# Altium footprint library V_1.PcbLib: 4 footprints
Each footprint in its own frame and in the unit in brackets; x right, y up, seen from the top. Pads: shape width x height; smd on the part's side, far side on the other; paste and mask are expansions set on the pad; w line width, h text height; cw(c..) or ccw(c..) is an arc to the next point about the centre after c.
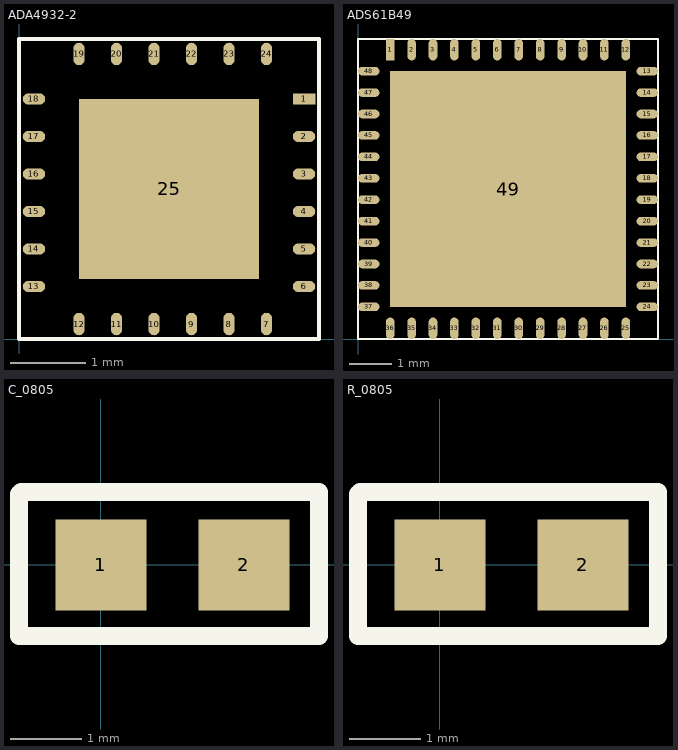
[diagram p0: the footprints below, top view; thin cyan lines are the x and y axes]

## ADA4932-2 [mm]
pads (25):
  rect 0.3x0.15 smd: 1(3.8,3.2)
  oval 0.3x0.15 smd: 2(3.8,2.7) 3(3.8,2.2) 4(3.8,1.7) 5(3.8,1.2) 6(3.8,0.7) 13(0.2,0.7) 14(0.2,1.2) 15(0.2,1.7) 16(0.2,2.2) 17(0.2,2.7) 18(0.2,3.2)
  oval 0.15x0.3 smd: 7(3.3,0.2) 8(2.8,0.2) 9(2.3,0.2) 10(1.8,0.2) 11(1.3,0.2) 12(0.8,0.2) 19(0.8,3.8) 20(1.3,3.8) 21(1.8,3.8) 22(2.3,3.8) 23(2.8,3.8) 24(3.3,3.8)
  rect 2.4x2.4 smd: 25(2,2)
Top Overlay:
  lines w0.05: 0,0 0,4 4,4 4,0 0,0

## ADS61B49 [mm]
pads (49):
  rect 0.2x0.5 smd: 1(0.75,6.75)
  oval 0.2x0.5 smd: 2(1.25,6.75) 3(1.75,6.75) 4(2.25,6.75) 5(2.75,6.75) 6(3.25,6.75) 7(3.75,6.75) 8(4.25,6.75) 9(4.75,6.75) 10(5.25,6.75) 11(5.75,6.75) 12(6.25,6.75) 25(6.25,0.25) 26(5.75,0.25) 27(5.25,0.25) 28(4.75,0.25) 29(4.25,0.25) 30(3.75,0.25) 31(3.25,0.25) 32(2.75,0.25) 33(2.25,0.25) 34(1.75,0.25) 35(1.25,0.25) 36(0.75,0.25)
  oval 0.5x0.2 smd: 13(6.75,6.25) 14(6.75,5.75) 15(6.75,5.25) 16(6.75,4.75) 17(6.75,4.25) 18(6.75,3.75) 19(6.75,3.25) 20(6.75,2.75) 21(6.75,2.25) 22(6.75,1.75) 23(6.75,1.25) 24(6.75,0.75) 37(0.25,0.75) 38(0.25,1.25) 39(0.25,1.75) 40(0.25,2.25) 41(0.25,2.75) 42(0.25,3.25) 43(0.25,3.75) 44(0.25,4.25) 45(0.25,4.75) 46(0.25,5.25) 47(0.25,5.75) 48(0.25,6.25)
  rect 5.5x5.5 smd: 49(3.5,3.5)
Top Overlay:
  lines w0.05: 0,0 7,0 7,7 0,7 0,0

## C_0805 [mm]
pads (2):
  rect 1.27x1.27 smd: 1(0,0) 2(2,0)
Top Layer:
  lines w0.05: -1.143,0.991 -1.118,1.016
Top Overlay:
  lines w0.25: -1.143,0.991 -1.143,0 -1.143,-0.991 3.048,-0.991 3.048,1.016 -1.118,1.016

## R_0805 [mm]
pads (2):
  rect 1.27x1.27 smd: 1(0,0) 2(2,0)
Top Layer:
  lines w0.05: -1.143,0.991 -1.118,1.016
Top Overlay:
  lines w0.25: -1.143,0.991 -1.143,0 -1.143,-0.991 3.048,-0.991 3.048,1.016 -1.118,1.016